# EAGLE library part W25Q80DVSNIG (library TDP12S521)
FLASH - NOR Memory IC 8Mb (1M x 8) SPI 104MHz 8-SOIC
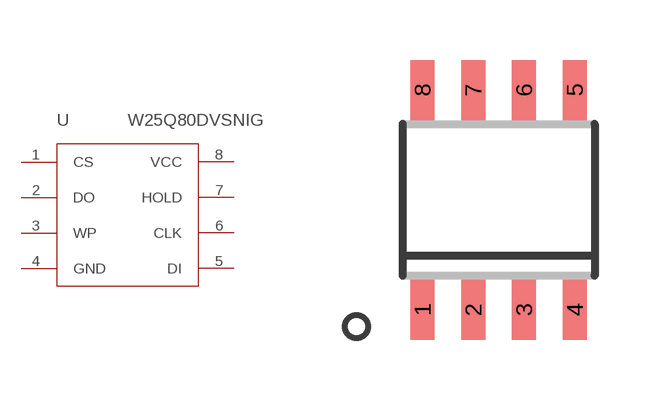
[diagram p1: symbol with the pads of SOIC8; footprint SOIC8]

Designator prefix -

## W25Q80DVSNIG  [SOIC8]
1  CS
2  DO
3  WP
4  GND
5  DI
6  CLK
7  HOLD
8  VCC

## Footprint SOIC8 (pad centres in mm)
SOIC-8 CASE 751-07 Source: http://www.onsemi.com/pub/Collateral/MC34164-D.PDF D (R-PDSO-G8)PLATIC SMALL-OUTLINE PACKAGE Source: http://focus.ti.com/lit/ds/symlink/tlc27l2.pdf
smd 0.6 x 1.5: 1 -1.905,-2.75; 2 -0.635,-2.75; 3 0.635,-2.75; 4 1.905,-2.75; 5 1.905,2.75; 6 0.635,2.75; 7 -0.635,2.75; 8 -1.905,2.75